# Altium footprint library THM WI single.PcbLib: 1 footprints
Each footprint in its own frame and in the unit in brackets; x right, y up, seen from the top. Pads: shape width x height; smd on the part's side, far side on the other; paste and mask are expansions set on the pad; w line width, h text height; cw(c..) or ccw(c..) is an arc to the next point about the centre after c.
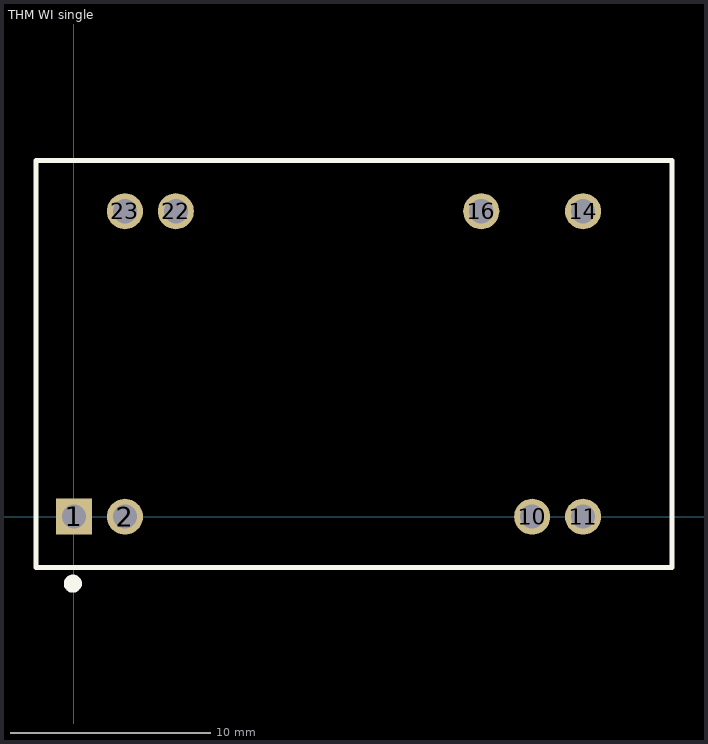
[diagram p0: the footprint, top view; thin cyan lines are the x and y axes]

## THM WI single [mm]
pads (8):
  rect 1.8x1.8 hole 1.2: 1(0,0)
  round 1.8 hole 1.2: 2(2.54,0) 10(22.86,0) 11(25.4,0) 14(25.4,15.24) 16(20.32,15.24) 22(5.08,15.24) 23(2.54,15.24)
Top Overlay:
  circle w0.5: c-0.06,-3.342 r0.2
  lines w0.254: -1.905,-2.54 -1.905,17.78 29.845,17.78 29.845,-2.54 -1.905,-2.54
3D body "THM_WI_single.stp": height 10.2, standoff -3.8, extent -1.93,-2.53 29.87,17.77